# Altium footprint library Diodes.PcbLib: 2 footprints
Each footprint in its own frame and in the unit in brackets; x right, y up, seen from the top. Pads: shape width x height; smd on the part's side, far side on the other; paste and mask are expansions set on the pad; w line width, h text height; cw(c..) or ccw(c..) is an arc to the next point about the centre after c.
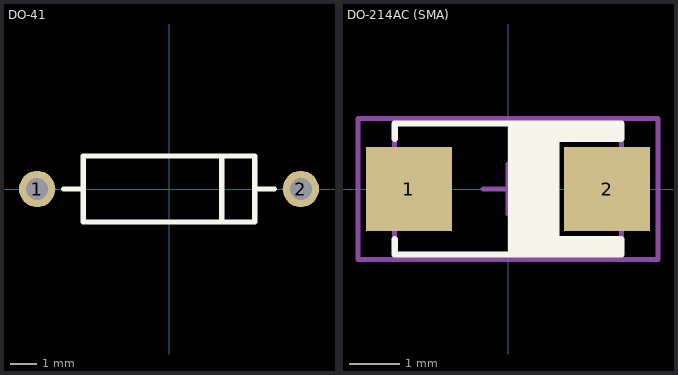
[diagram p0: the footprints below, top view; thin cyan lines are the x and y axes]

## DO-41 [mm] "Diode, Thru-Hole; 2 Leads; 0.4 in Pin Spacing"
height 2.54
pads (2):
  round 1.4 hole 0.85: 1(-5.08,0) 2(5.08,0)
Top Overlay:
  lines w0.2: -4.064,0 -3.302,0 ; 2.032,-1.27 2.032,1.27 ; 3.302,0 4.064,0 ; -3.302,-1.27 3.302,-1.27 3.302,1.27 -3.302,1.27 -3.302,-1.27
3D body "do-41.STEP": height 3.01, standoff -1.5, extent -5.4,-1.005 5.4,1.005

## DO-214AC (SMA) [mm] "DO-214AC(SMA) Package"
height 2.438
pads (2):
  rect 1.7x1.67 smd: 1(-1.965,0) 2(1.965,0)
Top Overlay:
  rectangle: 0,-1.3 2.25,-0.936
  region: 2.25,1.3 0,1.3 0,0.936 2.25,0.936
  region: 0,1.3 0,-1.3 1.025,-1.3 1.025,1.3
  lines w0.127: -2.25,-1 -2.25,-1.3 2.25,-1.3 2.25,-1 ; -2.25,1 -2.25,1.3 2.25,1.3 2.25,1
Mechanical 13:
  lines w0.1: -2.25,-1.3 -2.25,1.3 2.25,1.3 2.25,-1.3 -2.25,-1.3
Mechanical 15:
  lines w0.1: -0.5,0 0.5,0 ; 0,-0.5 0,0.5 ; -2.975,-1.4 -2.975,1.4 2.975,1.4 2.975,-1.4 -2.975,-1.4
3D body "User Library-DO-214AC SMA.step": height 2.35, standoff -0.05, extent -2.6,-1.3 2.6,1.3